# EAGLE library part TRAFO_EI38-2 (library SMD-Components_E950)
TRANSFORMER 1 primary winding, 2 secondary windings ERA
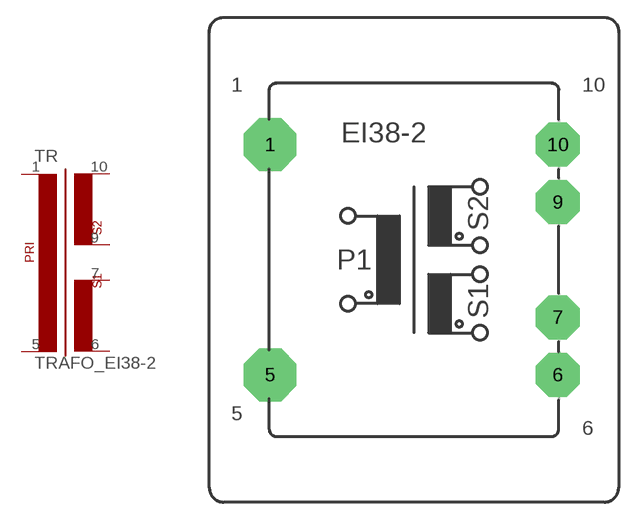
[diagram p4: symbol with the pads of TRAFO_EI38-2; footprint TRAFO_EI38-2]

Designator prefix TR

## TRAFO_EI38-2  [TRAFO_EI38-2]
1  1  pas
5  2  pas
6  3  pas
7  4  pas
9  5  pas
10  6  pas

## Footprint TRAFO_EI38-2 (pad centres in mm)
TRANSFORMER 1 primary winding, 2 secondary windings
drill 1.118 pad 4.572 octagon: 1 -12.497,10.008; 5 -12.497,-10.008
drill 1.118 pad 3.81 octagon: 6 12.497,-10.008; 7 12.497,-5.004; 9 12.497,5.004; 10 12.497,10.008